# Altium footprint library HK_PCBLIB_Updated.PcbLib: 10 footprints
Each footprint in its own frame and in the unit in brackets; x right, y up, seen from the top. Pads: shape width x height; smd on the part's side, far side on the other; paste and mask are expansions set on the pad; w line width, h text height; cw(c..) or ccw(c..) is an arc to the next point about the centre after c.
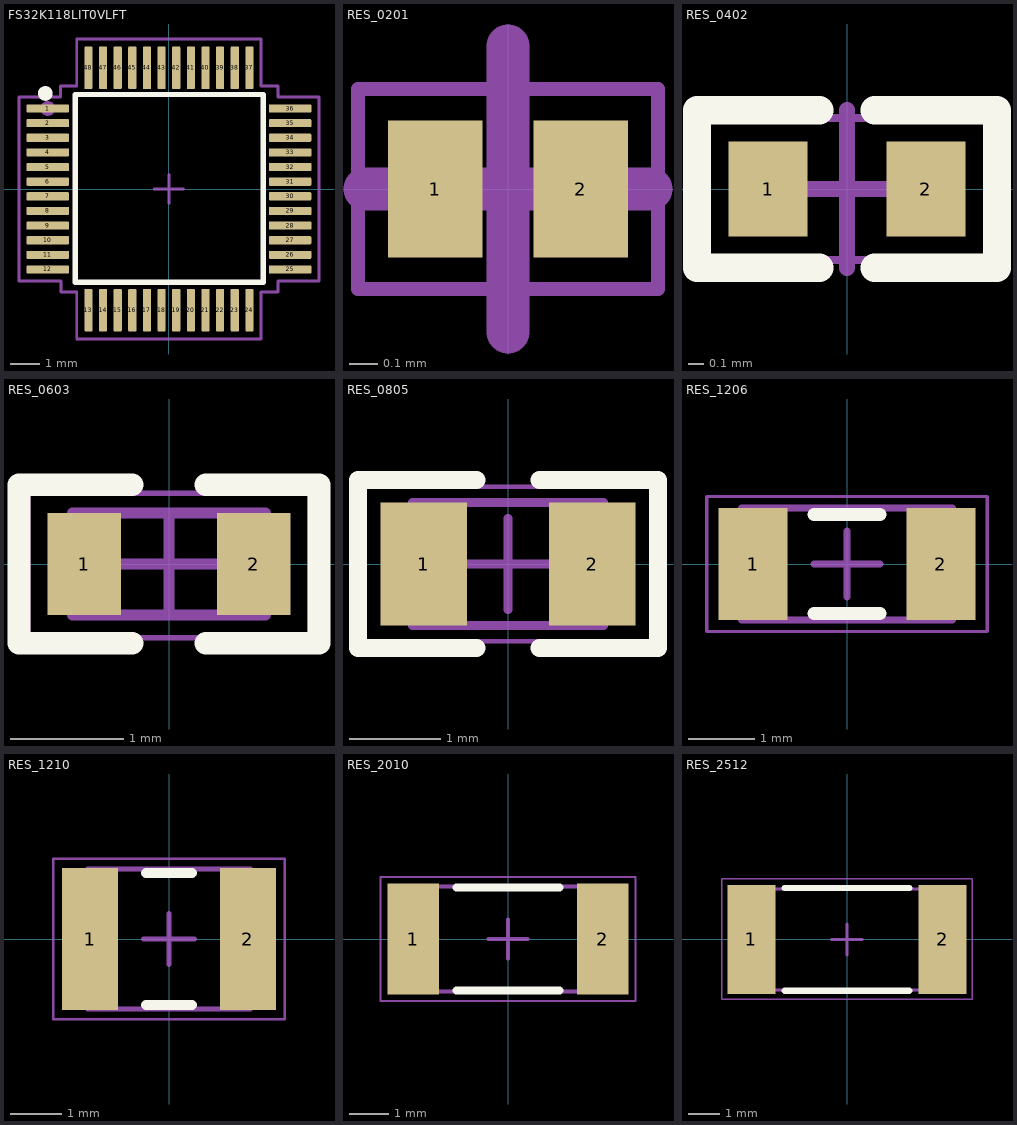
[diagram p0: the footprints below, top view; thin cyan lines are the x and y axes]

## FS32K118LIT0VLFT [mm] "LQFP-48"
pads (48):
  rrect25% 1.45x0.279 smd: 1(-4.14,2.75) 2(-4.14,2.25) 3(-4.14,1.75) 4(-4.14,1.25) 5(-4.14,0.75) 6(-4.14,0.25) 7(-4.14,-0.25) 8(-4.14,-0.75) 9(-4.14,-1.25) 10(-4.14,-1.75) 11(-4.14,-2.25) 12(-4.14,-2.75) 25(4.14,-2.75) 26(4.14,-2.25) 27(4.14,-1.75) 28(4.14,-1.25) 29(4.14,-0.75) 30(4.14,-0.25) 31(4.14,0.25) 32(4.14,0.75) 33(4.14,1.25) 34(4.14,1.75) 35(4.14,2.25) 36(4.14,2.75)
  rrect25% 0.279x1.45 smd: 13(-2.75,-4.14) 14(-2.25,-4.14) 15(-1.75,-4.14) 16(-1.25,-4.14) 17(-0.75,-4.14) 18(-0.25,-4.14) 19(0.25,-4.14) 20(0.75,-4.14) 21(1.25,-4.14) 22(1.75,-4.14) 23(2.25,-4.14) 24(2.75,-4.14) 37(2.75,4.14) 38(2.25,4.14) 39(1.75,4.14) 40(1.25,4.14) 41(0.75,4.14) 42(0.25,4.14) 43(-0.25,4.14) 44(-0.75,4.14) 45(-1.25,4.14) 46(-1.75,4.14) 47(-2.25,4.14) 48(-2.75,4.14)
Top Overlay:
  circle w0.25: c-4.225,3.265 r0.125
  lines w0.18: -3.2,-3.185 3.225,-3.185 3.225,3.225 -3.2,3.225 -3.2,-3.185
Top Assembly:
  circle w0.25: c-4.14,2.75 r0.125
  lines w0.1: -3.7,-3.149 -5.119,-3.149 -5.119,3.144 -3.7,3.144 -3.7,3.525 -3.149,3.525 -3.149,5.125 3.149,5.125 3.149,3.525 3.725,3.525 3.725,3.144 5.125,3.144 5.125,-3.15 ; -3.691,-3.149 -3.691,-3.525 -3.15,-3.525 -3.15,-5.125 3.149,-5.125 3.149,-3.525 3.725,-3.525 3.725,-3.149 5.118,-3.149
Top Component Center:
  lines w0.1: -0.5,0 0.5,0 ; 0,-0.5 0,0.5
Top Courtyard:
  lines w0.05: 3.149,3.525 3.725,3.525 3.725,3.144 5.119,3.144 ; 3.15,3.525 3.15,4.525 3.15,5.125 -3.149,5.125 -3.149,3.525 -3.7,3.525 -3.7,3.144 -5.119,3.144 -5.119,-3.149 -3.7,-3.149 -3.7,-3.525 -3.15,-3.525 -3.148,-5.125 3.149,-5.125 3.149,-3.525 3.725,-3.525 3.725,-3.15 5.125,-3.15 5.125,3.134
Top Designator:
  text ".Designator" at -3.809,-0.254 h0.76
Top 3D Body:
  lines w0.05: 3.149,3.525 3.725,3.525
3D body "LQFP_M.step": height 1.6, standoff 0, extent -4.5,-4.5 4.5,4.5

## RES_0201 [mm] "Resistor-0201 (0603 Metric)"
pads (2):
  rect 0.33x0.48 smd mask+0.05: 1(-0.255,0) 2(0.255,0)
Top Component Center:
  lines w0.15: -0.5,0 0.5,0 ; 0,-0.5 0,0.5
Top Courtyard:
  lines w0.05: -0.525,-0.35 -0.525,0.35 0.525,0.35 0.525,-0.35 -0.525,-0.35
Top Designator:
  text ".Designator" at -3.809,-0.254 h0.76
3D body "RC0201JR-070RL.STEP": height 0.26, standoff 0, extent -0.3,-0.15 0.3,0.15

## RES_0402 [mm] "Resistor-0402 (1005 Metric)"
pads (2):
  rect 0.5x0.6 smd mask+0.05: 1(-0.5,0) 2(0.5,0)
Top Overlay:
  lines w0.18: -0.175,-0.5 -0.95,-0.5 -0.95,0.25 -0.95,0.5 -0.175,0.5 ; 0.175,-0.5 0.95,-0.5 0.95,-0.25 0.95,0.5 0.175,0.5
Top Component Center:
  lines w0.1: -0.5,0 0.5,0 ; 0,-0.5 0,0.5
Top Courtyard:
  lines w0.05: -0.9,-0.45 -0.9,0.45 0.9,0.45 0.9,-0.45 -0.9,-0.45
3D body "RC0402FR-070RL.STEP": height 0.4, standoff 0, extent -0.5,-0.25 0.5,0.25

## RES_0603 [mm] "Resistor-0603 (1608 Metric)"
pads (2):
  rect 0.65x0.9 smd mask+0.05: 1(-0.75,0) 2(0.75,0)
Top Overlay:
  lines w0.2: -0.325,-0.7 -1.325,-0.7 -1.325,-0.275 -1.325,0.7 -0.325,0.7 ; 0.325,-0.7 1.325,-0.7 1.325,0.275 1.325,0.7 0.325,0.7
Mechanical 13:
  lines w0.1: -0.85,-0.45 -0.85,0.45 0.85,0.45 0.85,-0.45 -0.85,-0.45
Mechanical 15:
  lines w0.05: -1.25,-0.65 -1.25,0.625 1.25,0.625 1.25,-0.65 -1.25,-0.65
  lines w0.1: -0.45,0 0.45,0 ; 0,-0.45 0,0.45
3D body "RC0603N_YAG.step": height 0.71, standoff 0, extent -0.8,-0.406 0.8,0.406

## RES_0805 [mm] "Resistor-0805 (2012 Metric)"
pads (2):
  rect 0.95x1.35 smd mask+0.05: 1(-0.925,0) 2(0.925,0)
Top Overlay:
  lines w0.2: -0.35,-0.925 -1.65,-0.925 -1.65,-0.2 -1.65,0.925 -0.35,0.925 ; 0.35,-0.925 1.65,-0.925 1.65,0.2 1.65,0.925 0.35,0.925
Mechanical 13:
  lines w0.1: -1.05,-0.675 1.05,-0.675 1.05,0.675 -1.05,0.675 -1.05,-0.675
Mechanical 15:
  lines w0.05: -1.575,-0.85 1.575,-0.85 1.575,0.85 -1.575,0.85 -1.575,-0.85
  lines w0.1: -0.5,0 0.5,0 ; 0,-0.5 0,0.5
3D body "RC0805FR-072K7L.STEP": height 0.6, standoff 0, extent -1,-0.625 1,0.625

## RES_1206 [mm] "Resistor-1206 (3216 Metric)"
pads (2):
  rect 1.05x1.7 smd: 1(-1.425,0) 2(1.425,0)
Top Overlay:
  lines w0.2: -0.5,-0.75 0.5,-0.75 ; -0.5,0.75 0.5,0.75
Mechanical 13:
  lines w0.1: -1.6,-0.85 -1.6,0.85 1.6,0.85 1.6,-0.85 -1.6,-0.85
Mechanical 15:
  lines w0.05: -2.125,-1.025 -2.125,1.025 2.125,1.025 2.125,-1.025 -2.125,-1.025
  lines w0.1: -0.5,0 0.5,0 ; 0,-0.5 0,0.5
3D body "RC1206JR-070RL--3DModel-STEP-510211.STEP": height 0.66, standoff 0, extent -1.55,-0.8 1.55,0.8

## RES_1210 [mm] "Resistor-1210 (3225 Metric)"
pads (2):
  rect 1.1x2.8 smd: 1(-1.55,0) 2(1.55,0)
Top Overlay:
  lines w0.2: -0.45,-1.3 0.45,-1.3 ; -0.45,1.3 0.45,1.3
Mechanical 13:
  lines w0.1: -1.6,-1.375 -1.6,1.375 1.6,1.375 1.6,-1.375 -1.6,-1.375
Mechanical 15:
  lines w0.05: -2.275,-1.575 -2.275,1.575 2.275,1.575 2.275,-1.575 -2.275,-1.575
  lines w0.1: -0.5,0 0.5,0 ; 0,-0.5 0,0.5
3D body "RC1210JR-070RL.STEP": height 0.65, standoff 0, extent -1.55,-1.3 1.55,1.3

## RES_1812 [mm] "Resistor-1812 (4532 Metric)"

## RES_2010 [mm] "Resistor-2010 (5025 Metric)"
pads (2):
  rect 1.3x2.8 smd: 1(-2.4,0) 2(2.4,0)
Top Overlay:
  lines w0.2: -1.3,-1.3 1.3,-1.3 ; -1.3,1.3 1.3,1.3
Mechanical 13:
  lines w0.1: -2.55,-1.325 2.55,-1.325 2.55,1.325 -2.55,1.325 -2.55,-1.325
Mechanical 15:
  lines w0.05: -3.225,-1.575 3.225,-1.575 3.225,1.575 -3.225,1.575 -3.225,-1.575
  lines w0.1: -0.5,0 0.5,0 ; 0,-0.5 0,0.5
3D body "RES_RC2010_YAG.step": height 0.66, standoff 0, extent -2.553,-1.321 2.553,1.321

## RES_2512 [mm] "Resistor-2512 (6332 Metric)"
pads (2):
  rect 1.55x3.5 smd: 1(-3.075,0) 2(3.075,0)
Top Overlay:
  lines w0.2: -2,-1.65 2,-1.65 ; -2,1.65 2,1.65
Mechanical 13:
  lines w0.1: -3.225,-1.625 -3.225,1.625 3.225,1.625 3.225,-1.625 -3.225,-1.625
Mechanical 15:
  lines w0.05: -4.025,-1.925 -4.025,1.95 4.025,1.95 4.025,-1.925 -4.025,-1.925
  lines w0.1: -0.5,0 0.5,0 ; 0,-0.5 0,0.5
3D body "SR2512JK-7W100RL.STEP": height 0.65, standoff 0, extent -3.175,-1.55 3.175,1.55